# EAGLE library part LTS6NP (library LEM-jm)
Capteur de courant LEM -- J.-M. Bourgeot
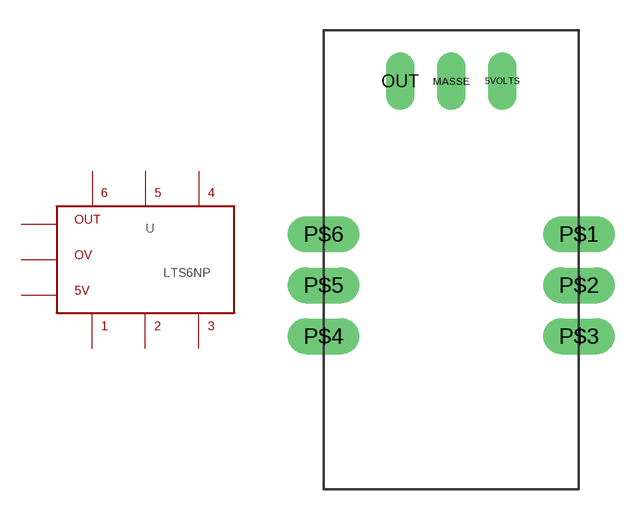
[diagram p0: symbol with the pads of LTS6NP; footprint LTS6NP]

Designator prefix -

## LTS6NP  [LTS6NP]
5VOLTS  P$5V
MASSE  P$0V
OUT  P$OUT
P$1  P$1
P$2  P$2
P$3  P$3
P$4  P$4
P$5  P$5
P$6  P$6

## Footprint LTS6NP (pad centres in mm)
drill 0.6 pad 1.422 long: 5VOLTS 2.54,3.81; MASSE 0,3.81; OUT -2.54,3.81
drill 0.8 pad 1.778 long: P$1 6.35,-3.81; P$2 6.35,-6.35; P$3 6.35,-8.89; P$4 -6.35,-8.89; P$5 -6.35,-6.35; P$6 -6.35,-3.81